# Altium footprint library Misc Footprints.PcbLib: 11 footprints
Each footprint in its own frame and in the unit in brackets; x right, y up, seen from the top. Pads: shape width x height; smd on the part's side, far side on the other; paste and mask are expansions set on the pad; w line width, h text height; cw(c..) or ccw(c..) is an arc to the next point about the centre after c.
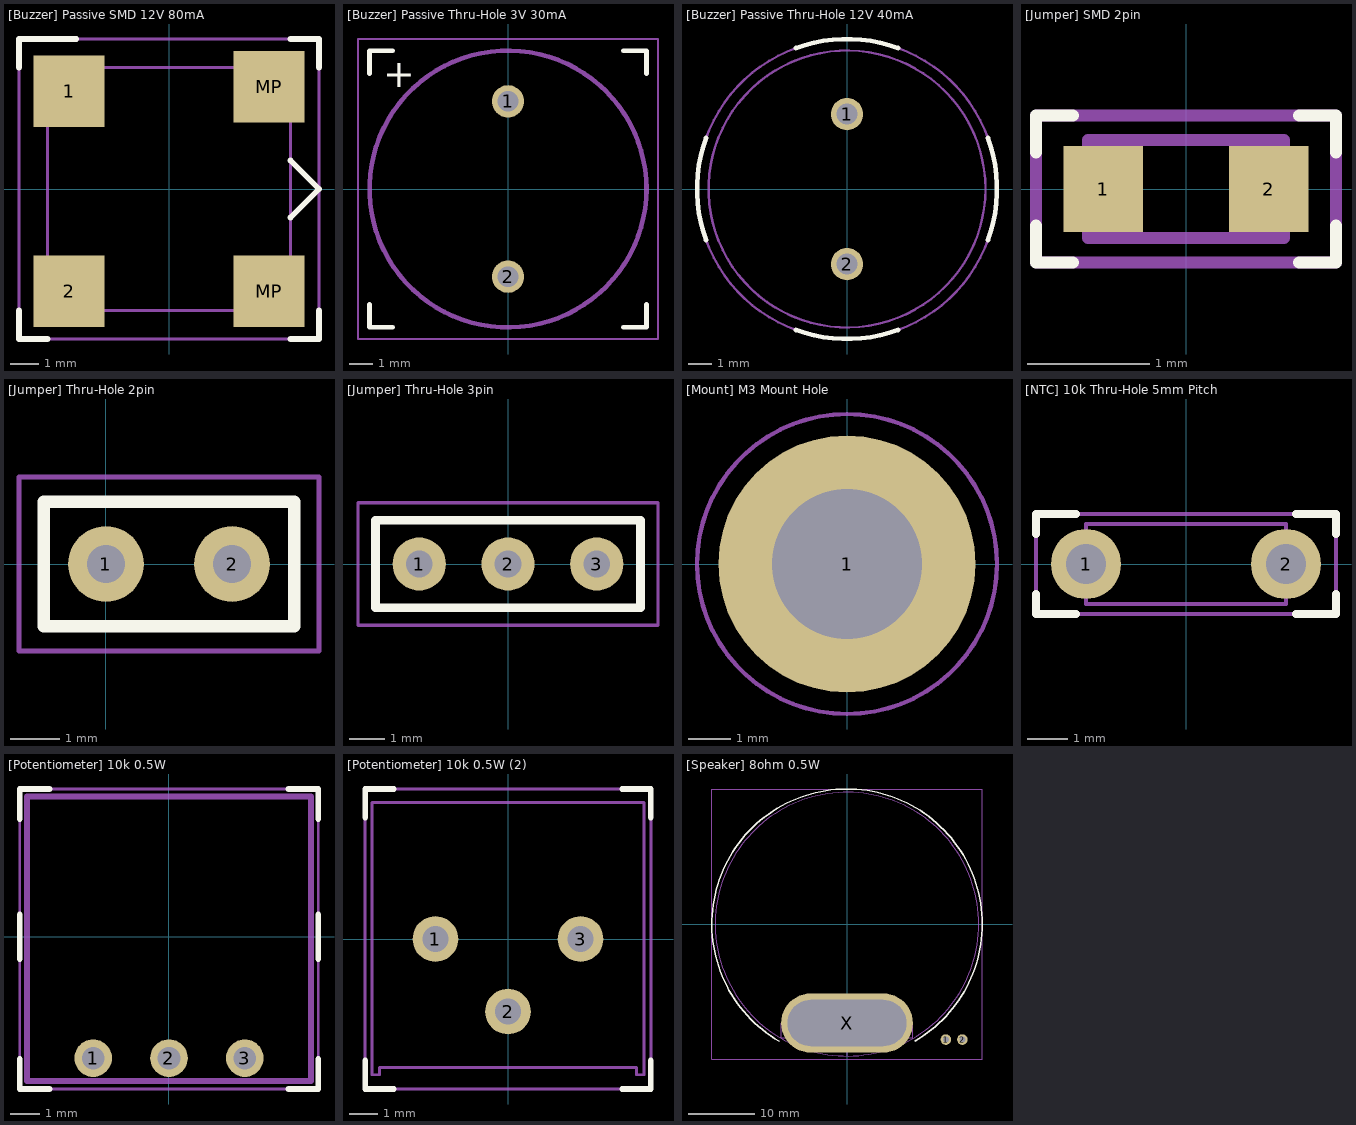
[diagram p0: the footprints below, top view; thin cyan lines are the x and y axes]

## [Buzzer] Passive SMD 12V 80mA [mm] "CT08E-16S400-2"
pads (4):
  rect 2.5x2.5 smd: 1(-3.5,3.424) 2(-3.5,-3.576) MP(3.5,-3.576) MP(3.5,3.576)
Top Overlay:
  lines w0.1: 5.25,0 5.25,0
  lines w0.2: -5.25,-4.25 -5.25,-5.25 -4.25,-5.25 ; -5.25,4.25 -5.25,5.25 -3.25,5.25 ; 4.25,-5.25 5.25,-5.25 5.25,-4.25 ; 4.25,-1 5.25,0 4.25,1 ; 4.25,5.25 5.25,5.25 5.25,4.25
Physical Outline:
  lines w0.1: -4.25,4.25 -4.25,-4.25 4.25,-4.25 4.25,4.25 -4.25,4.25 ; -4.25,4.25 -4.25,4.25
Device Border:
  lines w0.1: -5.25,-5.25 5.25,-5.25 5.25,5.25 -5.25,5.25 -5.25,-5.25
3D body "[Buzzer] Passive SMD 12V 80mA.stp": height 4, standoff 0, extent -4.25,-4.25 4.25,4.25

## [Buzzer] Passive Thru-Hole 3V 30mA [mm] "AI-1223-TWT-3V-2-R"
pads (2):
  round 1.4 hole 0.9: 1(0,3.8) 2(0,-3.8)
Top Overlay:
  lines w0.2: -6,-4.988 -6,-5.988 -5,-5.988 ; -6,4.988 -6,5.988 -5,5.988 ; 5,-5.988 6,-5.988 6,-4.988 ; 5,5.988 6,5.988 6,4.988
  text "+" at -5.4,4.4 h1.2
Physical Outline:
  circle w0.2: c0,0 r6
Device Border:
  lines w0.1: -6.5,-6.5 -6.5,6.5 6.5,6.5 6.5,-6.5 -6.5,-6.5
3D body "AI-1223-TWT-3V-2-R.stp": height 7.8, standoff -5, extent -6,-5.988 6,5.988

## [Buzzer] Passive Thru-Hole 12V 40mA [mm] "CEM-1212S"
pads (2):
  round 1.4 hole 0.9: 1(0,3.245) 2(0,-3.255)
Top Overlay:
  lines w0.2: -6.108,-2.223 cw(c0,0) -6.108,2.223 ; -2.223,-6.108 ccw(c0,0) 2.223,-6.108 ; -2.223,6.108 cw(c0,0) 2.223,6.108 ; 6.108,-2.223 ccw(c0,0) 6.108,2.223
Physical Outline:
  circle w0.1: c0,0 r6
Device Border:
  circle w0.1: c0,0 r6.5
3D body "CEM-1212S.stp": height 9.5, standoff -5.5, extent -6,-6 6,5.989

## [Jumper] SMD 2pin [mm]
pads (2):
  rect 0.65x0.7 smd: 1(-0.675,0) 2(0.675,0)
Top Overlay:
  lines w0.1: -1.225,-0.3 -1.225,-0.6 -0.925,-0.6 ; -1.225,0.3 -1.225,0.6 -0.925,0.6 ; 0.925,-0.6 1.225,-0.6 1.225,-0.3 ; 0.925,0.6 1.225,0.6 1.225,0.3
Physical Outline:
  lines w0.1: -0.8,-0.4 -0.8,0.4 0.8,0.4 0.8,-0.4 -0.8,-0.4
Device Border:
  lines w0.1: -1.225,-0.6 -1.225,0.6 1.225,0.6 1.225,-0.6 -1.225,-0.6
3D body "GRM188C80J226ME01D.stp": height 0.8, standoff 0, extent -0.8,-0.45 0.8,0.45

## [Jumper] Thru-Hole 2pin [mil]
pads (2):
  round 60 hole 30: 1(0,0) 2(100,0)
Top Overlay:
  lines w10: -49.21,-49.21 149.22,-49.21 149.22,49.22 -49.21,49.22 -49.21,-49.21
Device Border:
  lines w3.94: -68.89,-68.89 -68.89,68.9 168.9,68.9 168.9,-68.89 -68.89,-68.89
3D body "Pin Header 1x2 TH Pitch 2.54mm.stp": height 373.85, standoff -125.98, extent -50,-50 150,50

## [Jumper] Thru-Hole 3pin [mil]
pads (3):
  round 60 hole 30: 1(-100,0) 2(0,0) 3(100,0)
Top Overlay:
  lines w10: -149.21,-49.21 149.21,-49.21 149.21,49.21 -149.21,49.21 -149.21,-49.21
Device Border:
  lines w3.94: -168.9,-68.9 -168.9,68.9 168.9,68.9 168.9,-68.9 -168.9,-68.9
3D body "Pin Header 1x3 TH Pitch 2.54mm.stp": height 373.85, standoff -125.98, extent -150,-50 150,50

## [Mount] M3 Mount Hole [mm]
pads (1):
  round 6 hole 3.5: 1(0,0)
Device Border:
  circle w0.1: c0,0 r3.5

## [NTC] 10k Thru-Hole 5mm Pitch [mm] "B57164K0103J000"
pads (2):
  round 1.75 hole 1: 1(-2.5,0) 2(2.5,0)
Top Overlay:
  lines w0.2: -3.75,-0.75 -3.75,-1.25 -2.75,-1.25 ; -3.75,0.75 -3.75,1.25 -2.75,1.25 ; 2.75,-1.25 3.75,-1.25 3.75,-0.75 ; 2.75,1.25 3.75,1.25 3.75,0.75
Physical Outline:
  lines w0.1: -2.5,-1 -2.5,1 2.5,1 2.5,-1 -2.5,-1
Device Border:
  lines w0.1: -3.75,-1.25 -3.75,1.25 3.75,1.25 3.75,-1.25 -3.75,-1.25
3D body "[NTC] 10k Thru-Hole.step": height 5.45, standoff -2.5, extent -2.8,-1 2.8,1

## [Potentiometer] 10k 0.5W [mm]
pads (3):
  round 1.26 hole 0.76: 1(-2.54,-4.066) 2(0,-4.066) 3(2.54,-4.066)
Top Overlay:
  lines w0.2: -5,-4.1 -5,-5.1 -4,-5.1 ; -5,-0.75 -5,0.75 ; -5,3.95 -5,4.95 -4,4.95 ; 4,-5.1 5,-5.1 5,-4.1 ; 4,4.95 5,4.95 5,3.95 ; 5,-0.75 5,0.75
Physical Outline:
  lines w0.2: -4.762,-4.826 4.763,-4.826 4.763,4.699 -4.762,4.699 -4.762,-4.826
Device Border:
  lines w0.1: -5,-5.1 5,-5.1 5,4.95 -5,4.95 -5,-5.1
3D body "[Potentiometer] 10k 0.5W.stp": height 5, standoff -5.77, extent -4.788,-4.851 4.788,4.724

## [Potentiometer] 10k 0.5W (2) [mm]
pads (3):
  round 1.6 hole 0.9: 1(-2.54,0) 2(0,-2.54) 3(2.54,0)
Top Overlay:
  lines w0.2: -5,-4.25 -5,-5.25 -4,-5.25 ; -5,4.25 -5,5.25 -4,5.25 ; 4,-5.25 5,-5.25 5,-4.25 ; 4,5.25 5,5.25 5,4.25
Physical Outline:
  lines w0.1: -4.765,-4.75 -4.5,-4.75 -4.5,-4.5 4.5,-4.5 4.5,-4.75 4.765,-4.75 4.765,4.78 0,4.78 -4.765,4.78 -4.765,-4.75
Device Border:
  lines w0.1: -5,-5.25 5,-5.25 5,5.25 -5,5.25 -5,-5.25
3D body "M61P103KT20T607.stp": height 10.41, standoff -5.92, extent -4.788,-4.9 4.788,4.93

## [Speaker] 8ohm 0.5W [mm] "CMS-40558N-L152"
pads (3):
  round 1.6 hole 0.9: 1(15,-17.5) 2(17.5,-17.5)
  oval 20x9 hole 7 slot 18 at 0 deg: X(0,-15)
Top Overlay:
  lines w0.2: -10.25,-17.754 cw(c0,0) 20.5,0 cw(c0,0) 10.25,-17.754
Physical Outline:
  circle w0.1: c0,0 r20
  lines w0.1: 0,-20 0,-15 ; 0,-15 10,-15 10,-17.25 -10,-17.25 -10,-15 0,-15
Device Border:
  lines w0.1: -20.5,-20.5 20.5,-20.5 20.5,20.5 -20.5,20.5 -20.5,-20.5
3D body "[Speaker] 8ohm 0.5W.step": height 4.5, standoff -0.2, extent -20,-20 20,20